# Altium footprint library Discrete.PCBLIB: 128 footprints (part 6 of 8)
Each footprint in its own frame and in the unit in brackets; x right, y up, seen from the top. Pads: shape width x height; smd on the part's side, far side on the other; paste and mask are expansions set on the pad; w line width, h text height; cw(c..) or ccw(c..) is an arc to the next point about the centre after c.
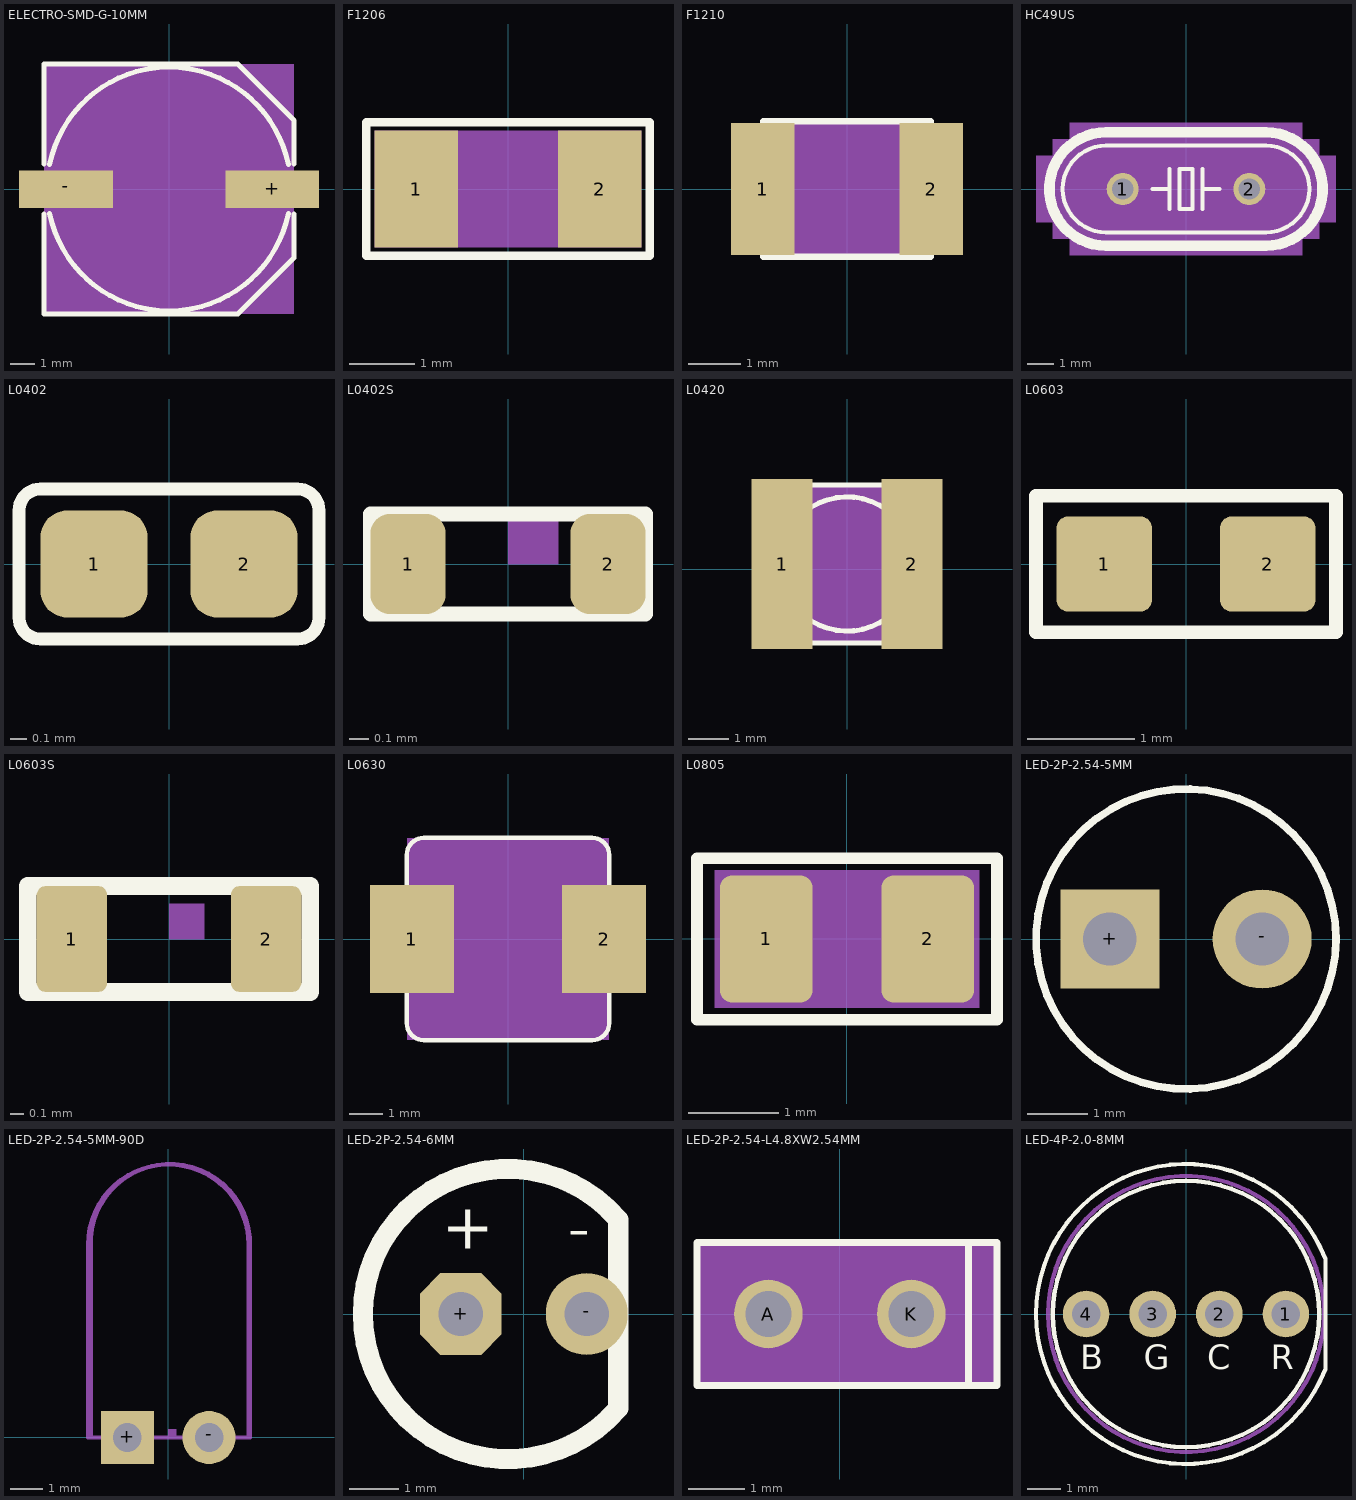
[diagram p5: the footprints below, top view; thin cyan lines are the x and y axes]

## ELECTRO-SMD-G-10MM [mil]
pads (2):
  rect 150x60 smd: +(165,0) -(-165,0)
Top Overlay:
  lines w8: -200,-40 -200,-200 110,-200 200,-110 200,-40 ; -200,40 -200,200 110,200 200,110 200,40 ; -190.94,-39.37 ccw(c0,0) 190.94,-39.37 ; -190.94,39.37 cw(c0,0) 190.94,39.37
Mechanical 27:
  rectangle: -200,-200 200,200

## F1206 [mil]
pads (2):
  rect 50x70 smd: 1(-55,0) 2(55,0)
Top Overlay:
  lines w5: -85,-40 85,-40 85,40 -85,40 -85,-40
Mechanical 27:
  rectangle: -80,-35 80,35

## F1210 [mil]
pads (2):
  rect 47.24x98.43 smd: 1(-62.99,0) 2(62.99,0)
Top Overlay:
  lines w5: -62.4,-50.79 62.4,-50.79 62.4,50.79 -62.4,50.79 -62.4,-50.79
Mechanical 27:
  rectangle: -60,-50 60,50

## HC49US [mil]
pads (2):
  round 48 hole 32: 1(-95,0) 2(95,0)
Top Overlay:
  lines w6: -50,0 -25,0 ; -25,-30 -25,0 ; -25,30 -25,0 ; 25,-30 25,0 ; 25,30 25,0 ; 50,0 25,0 ; -120,-65 120,-65 ccw(c120,0) 120,65 -120,65 ccw(c-120,0) -120,-65 ; -10,-30 10,-30 10,30 -10,30 -10,-30
  lines w16: -120,-85 120,-85 ccw(c120,0) 120,85 -120,85 ccw(c-120,0) -120,-85
Mechanical 10:
  rectangle: -175,-100 175,100
  rectangle: -200,-75 -175,75
  rectangle: -225,-50 -200,50
  rectangle: 175,-75 200,75
  rectangle: 200,-50 225,50

## L0402 [mil]
pads (2):
  rrect50% 25x25 smd: 1(-17.5,0) 2(17.5,0)
Top Overlay:
  lines w3: -35,-12.5 ccw(c-30,-12.5) -30,-17.5 30,-17.5 ccw(c30,-12.5) 35,-12.5 35,12.5 ccw(c30,12.5) 30,17.5 -30,17.5 ccw(c-30,12.5) -35,12.5 -35,-12.5

## L0402S [mil]
pads (2):
  rrect50% 15x20 smd: 1(-20,0) 2(20,0)
Top Overlay:
  lines w3: -27.5,-10 27.5,-10 27.5,10 -27.5,10 -27.5,-10
Mechanical 16:
  region: 0,0 10,0 10,10 0,10

## L0420 [mil]
pads (2):
  rect 59.06x165.35 smd: 1(-62.99,5) 2(62.99,5)
Top Overlay:
  circle w5: c0,5 r65.19
  lines w5: -76.77,-71.77 76.77,-71.77 76.77,81.77 -76.77,81.77 -76.77,-71.77
Mechanical 27:
  rectangle: -75,-70 75,80

## L0603 [mil]
pads (2):
  rrect25% 35x35 smd: 1(-30,0) 2(30,0)
Top Overlay:
  lines w5: -55,-25 55,-25 55,25 -55,25 -55,-25

## L0603S [mil]
pads (2):
  rrect25% 20x30 smd: 1(-27.5,0) 2(27.5,0)
Top Overlay:
  lines w5: -40,-15 40,-15 40,15 -40,15 -40,-15
Mechanical 16:
  region: 0,0 10,0 10,10 0,10

## L0630 [mil]
pads (2):
  rect 98.43x125.98 smd: 1(-112.2,0) 2(112.2,0)
Top Overlay:
  lines w5: -118.11,-98.43 ccw(c-98.43,-98.43) -98.43,-118.11 98.43,-118.11 ccw(c98.43,-98.43) 118.11,-98.43 118.11,98.43 ccw(c98.43,98.43) 98.43,118.11 -98.43,118.11 ccw(c-98.43,98.43) -118.11,98.43 -118.11,-98.43
Mechanical 27:
  rectangle: -118.11,-118.11 118.11,118.11

## L0805 [mil]
pads (2):
  rrect25% 40x55 smd: 1(-35,0) 2(35,0)
Top Overlay:
  lines w5: -65,-35 65,-35 65,35 -65,35 -65,-35
Mechanical 27:
  rectangle: -57.5,-30 57.5,30

## LED-2P-2.54-5MM [mil]
pads (2):
  rect 65x65 hole 35: +(-49.99,0)
  round 65 hole 35: -(49.99,0)
Top Overlay:
  circle w5: c0,0 r98.43

## LED-2P-2.54-5MM-90D [mil]
pads (2):
  rect 65x65 hole 35: +(-50,0)
  round 65 hole 35: -(50,0)
Mechanical 14:
  region: 0,0 10,0 10,10 0,10
  lines w5: -98.43,0 98.43,0 98.43,236.22 ccw(c0,236.22) 0,334.65 ccw(c0,236.22) -98.43,236.22 -98.43,0
  text "+" at -75,30 h108.5
  text "-" at 25,30 h108.5
Mechanical 27:
  lines w5: -95,0 -95,245 cw(c2.5,237.5) 100,245 100,0 -95,0

## LED-2P-2.54-6MM [mil]
pads (2):
  oct 65x65 hole 35: +(-49.99,0)
  round 65 hole 35: -(49.99,0)
Top Overlay:
  lines w16: 75,-75 cw(c-12.5,0) 75,75 75,-75
  text "+" at -65,40 h62
  text "-" at 35,40 h62
Mechanical 27:
  lines w5: 80,-75 cw(c-12.5,0) 80,75 80,-75

## LED-2P-2.54-L4.8XW2.54MM [mil]
pads (2):
  round 48 hole 32: A(-50,0) K(50,0)
Top Overlay:
  lines w5: 90,-50 -100,-50 -100,50 90,50 ; 90,-50 110,-50 110,50 90,50 ; 90,-50 90,50
Mechanical 27:
  rectangle: -100,-50 110,50

## LED-4P-2.0-8MM [mm]
pads (4):
  round 1.4 hole 0.85: 1(3,0) 2(1,0) 3(-1,0) 4(-3,0)
Top Overlay:
  circle w0.127: c0,0 r4
  lines w0.127: 4.191,-1.651 4.191,1.651 ccw(c0,0) 4.191,-1.651
  text "R" at 2.54,-1.905 h1.26
  text "C" at 0.635,-1.905 h1.26
  text "G" at -1.27,-1.905 h1.26
  text "B" at -3.175,-1.905 h1.26
Mechanical 27:
  circle w0.127: c0,0 r4.147